# Altium footprint library Game Joystick P5101.PcbLib: 38 footprints (part 1 of 3)
Each footprint in its own frame and in the unit in brackets; x right, y up, seen from the top. Pads: shape width x height; smd on the part's side, far side on the other; paste and mask are expansions set on the pad; w line width, h text height; cw(c..) or ccw(c..) is an arc to the next point about the centre after c.
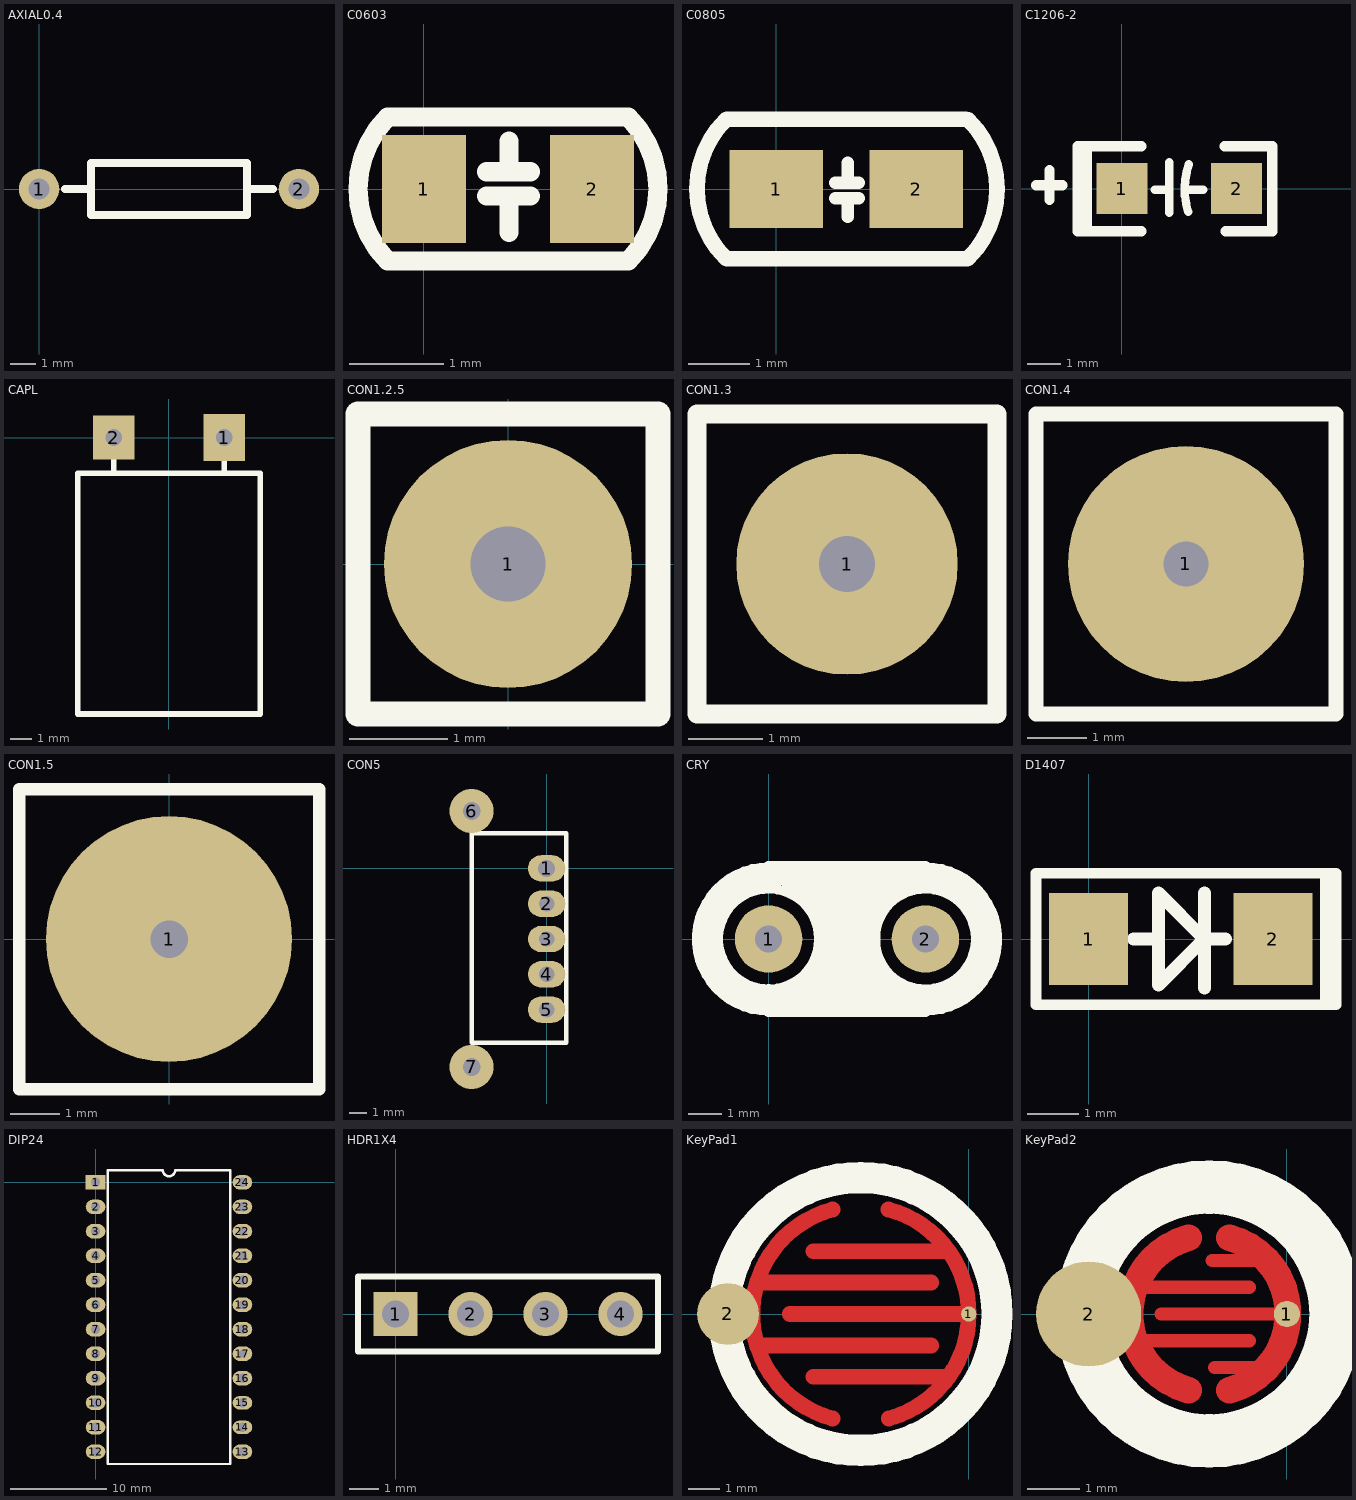
[diagram p0: the footprints below, top view; thin cyan lines are the x and y axes]

## AXIAL0.4 [mil]
pads (2):
  round 62 hole 32: 1(0,0) 2(400,0)
Top Overlay:
  lines w12: 40,0 80,0 ; 320,0 360,0 ; 80,-40 80,40 320,40 320,-40 80,-40

## C0603 [mil]
pads (2):
  rect 35x45 smd: 1(0,0) 2(70,0)
Top Overlay:
  lines w8: 26,-2.86 44.39,-2.86 ; 26,7.14 44.39,7.14 ; 35.39,-18 35.39,-2.86 ; 35.39,7.14 35.39,20 ; -15,-30 cw(c15,0) -15,30 85,30 cw(c55,0) 85,-30 -15,-30

## C0805 [mil]
pads (2):
  rect 60x50 smd: 1(0,0) 2(90.01,-0.01)
Top Overlay:
  lines w8: 38,-6 53,-6 ; 38,4 53,4 ; 46,-18 46,-6 ; 46,7 46,17
  lines w10: -32.55,-44.55 cw(c12,0) -32.55,44.55 ; -32,-45 25,-45 ; -32,45 25,45 ; 6,45 79,45 ; 19,-45 72,-45 ; 60,45 122,44.96 ; 65,-45 123,-45 ; 123.55,-44.55 ccw(c79,0) 123.55,44.55

## C1206-2 [mil]
pads (2):
  rect 60x60 smd: 1(0,0) 2(135,0)
Top Overlay:
  lines w10: 39,-1 54,-1 ; 56,-28 56,31 ; 76,-1 96,-1 ; 78,-27 cw(c162.95,-0.32) 78.88,29.04
  lines w12: -101,4 -70,4 ; -85,-13 -85,22 ; -46,-50 -46,50 ; -41,-50 -41,50 ; 23,-50 -52,-50 -52,50 23,50 ; 121,50 177,50 177,-50 122,-50

## CAPL [mil]
pads (2):
  rect 75x85 hole 30: 1(100,0)
  rect 75x80 hole 30: 2(-100,0)
Top Overlay:
  lines w10: -100,-65 -100,-20 ; 100,-65 100,-10 ; -165,-500 -165,-65 165,-65 165,-500 -165,-500

## CON1.2.5 [mil]
pads (1):
  round 99.37 hole 30: 1(0,0)
Top Overlay:
  lines w10: -60,-60 60,-60 60,60 -60,60 -60,-60

## CON1.3 [mil]
pads (1):
  round 118.11 hole 30: 1(-480,-1240)
Top Overlay:
  lines w10: -560,-1320 -560,-1160 -400,-1160 -400,-1300 -400,-1320 -560,-1320

## CON1.4 [mil]
pads (1):
  round 157.48 hole 30: 1(-960,-440)
Top Overlay:
  lines w10: -1060,-540 -1060,-340 -860,-340 -860,-540 -1060,-540

## CON1.5 [mm]
pads (1):
  round 5 hole 0.762: 1(0,0)
Top Overlay:
  lines w0.254: -3.048,-3.048 3.048,-3.048 3.048,3.048 -3.048,3.048 -3.048,-3.048

## CON5 [mil]
pads (7):
  oval 85x60 hole 38: 1(0,0)
  oval 85x60 hole 35: 2(0,-80) 3(0,-160) 4(0,-240) 5(0,-320)
  round 100 hole 40: 6(-170,130) 7(-170,-450)
Top Overlay:
  lines w10: -170,-395 45,-395 45,80 -170,80 -170,-395

## CRY [mil]
pads (2):
  round 80 hole 32: 1(0,0) 2(186,0)
Top Overlay:
  circle w18: c186,0 r73.03
  circle w15: c0,0 r72.94
  circle w12: c186,0 r60
  circle w12: c0,0 r60
  lines w12: 0,-85 cw(c0,0) 0,85 ; 186,-85 ccw(c186,0) 186,85
  lines w15: -21,-81 -21,-63 ; -10,-80 -10,-61 ; 0,-61 0,-85 186,-85 ; 0,85 186,85 ; 10,-85 10,-64 ; 18,-85 18,-59 ; 19,73 19,85 ; 26,79 26,85 ; 27,-85 27,-59 ; 36,55 36,85 ; 37,-85 37,-52 ; 45,-85 45,-44 ; 46,45 46,85 ; 54,-85 54,-35 ; 55,33 55,85 ; 63,-82 63,85 ; 72,-84 72,85 ; 81,-85 81,84 ; 90,-83 90,85 ; 99,-85 99,84 ; 108,-84 108,85 ; 117,-85 117,85 ; 125,-81 125,85 ; 133,31 133,85 ; 134,-85 134,-34 ; 142,49 142,85 ; 143,-85 143,-47 ; 150,-85 150,-54 ; 151,58 151,85 ; 159,-85 159,-63 ; 159,55 159,85

## D1407 [mil]
pads (2):
  rect 60x70 smd: 1(0,0) 2(140,0)
Top Overlay:
  lines w8: 180,-50 180,50 ; -40,-50 -40,50 188,50 188,-50 -40,-50
  lines w10: 34,0 53,0 ; 88,-37 88,35 ; 104,0 88,0 ; 88,0 53,-35 53,35 88,0

## DIP24 [mil]
pads (24):
  rect 80x60 hole 38: 1(0,0)
  oval 80x60 hole 38: 2(0,-100) 3(0,-200) 4(0,-300) 5(0,-400) 6(0,-500) 7(0,-600) 8(0,-700) 9(0,-800) 10(0,-900) 11(0,-1000) 12(0,-1100) 13(600,-1100) 16(600,-800) 18(600,-600) 20(600,-400) 21(600,-300) 22(600,-200) 23(600,-100) 24(600,0)
  oval 80x55 hole 38: 14(600,-1000) 15(600,-900)
  oval 80x60 hole 32: 17(600,-700)
  oval 80x60 hole 35: 19(600,-500)
Top Overlay:
  lines w10: 50,-1150 550,-1150 550,50 325,50 cw(c300,50) 275,50 50,50 50,-1150

## HDR1X4 [mm]
pads (4):
  rect 1.5x1.5 hole 0.9: 1(0,0)
  round 1.5 hole 0.9: 2(2.54,0) 3(5.08,0) 4(7.62,0)
Top Overlay:
  lines w0.2: -1.27,-1.27 8.89,-1.27 8.89,1.27 -1.27,1.27 -1.27,-1.27

## KeyPad1 [mm]
pads (2):
  round 0.5 smd: 1(0,0)
  round 2 smd: 2(-7.79,0)
Top Layer:
  lines w0.508: -6.675,-1.016 -1.214,-1.016 ; -6.675,1.016 -1.214,1.016 ; -5.786,0 -0.071,0 ; -5.024,-2.032 -0.796,-2.032 -0.706,-2.032 ; -5.024,2.032 -0.706,2.032 ; -4.409,-3.38 cw(c-3.5,0) -4.409,3.38 ; -2.597,3.381 cw(c-3.5,0) 0,0 cw(c-3.5,0) -0.674,-2.064 cw(c-3.5,0) -0.742,-2.155 cw(c-3.5,0) -0.796,-2.223 cw(c-3.5,0) -1.723,-3.016 cw(c-3.5,0) -2.198,-3.249 cw(c-3.5,0) -2.591,-3.38
Top Overlay:
  circle w1.016: c-3.5,0 r4.413
Top Solder:
  circle w4.191: c-3.5,0 r1.778

## KeyPad2 [mm]
pads (2):
  round 0.5 smd: 1(0,0)
  round 2 smd: 2(-3.77,0)
Top Layer:
  lines w0.254: -3.004,-0.508 -0.718,-0.508 ; -3.004,0.508 -0.718,0.508 ; -2.394,0 0.044,0 ; -1.421,1.016 -0.376,1.016 -0.337,1.016 ; -1.37,-1.016 -0.458,-1.016 -0.407,-1.016 -0.376,-1.016 -0.337,-1.016
  lines w0.508: -1.87,-1.449 cw(c-1.48,0) -1.87,1.449 ; -1.093,1.449 cw(c-1.48,0) -0.376,1.016 cw(c-1.48,0) -0.376,-1.016 cw(c-1.48,0) -0.407,-1.048 cw(c-1.48,0) -0.416,-1.057 cw(c-1.48,0) -1.09,-1.449
Top Overlay:
  circle w1.016: c-1.48,0 r2.413
Top Solder:
  circle w2: c-1.48,0 r0.8